# Altium footprint library PcbLib.PcbLib: 285 footprints (part 3 of 18)
Each footprint in its own frame and in the unit in brackets; x right, y up, seen from the top. Pads: shape width x height; smd on the part's side, far side on the other; paste and mask are expansions set on the pad; w line width, h text height; cw(c..) or ccw(c..) is an arc to the next point about the centre after c.
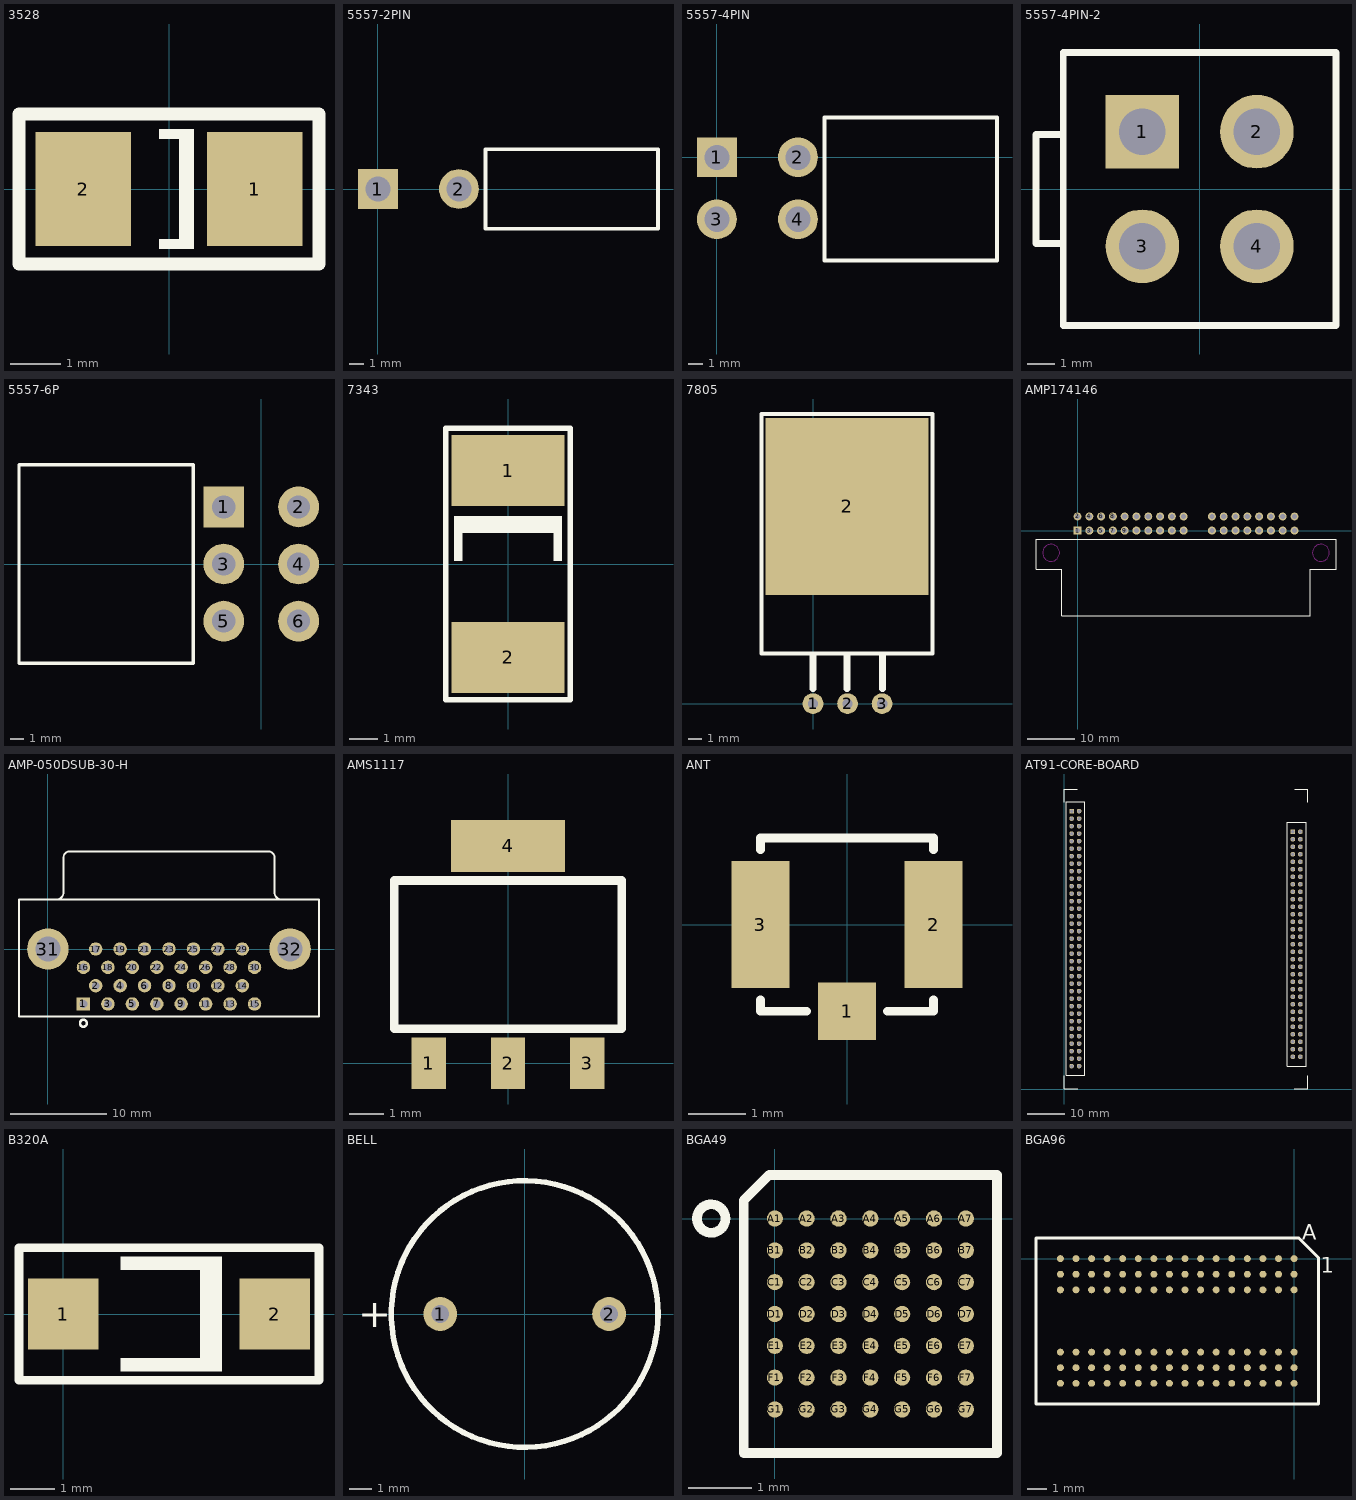
[diagram p2: the footprints below, top view; thin cyan lines are the x and y axes]

## 3528 [mil]
pads (2):
  rect 75x90 smd: 1(67.5,0) 2(-67.5,0)
Top Overlay:
  rectangle: -7.87,-47.24 7.87,-39.37
  rectangle: -7.87,39.37 11.81,47.24
  rectangle: 7.87,-47.24 19.68,47.24
  lines w10: -118.11,-59.06 0,-59.06 118.11,-59.06 118.11,59.06 0,59.06 -118.11,59.06 -118.11,-59.06

## 5557-2PIN [mm]
pads (2):
  rect 2.7x2.7 hole 1.7: 1(0,0)
  round 2.7 hole 1.7: 2(5.5,0)
Top Overlay:
  lines w0.254: 7.3,-2.7 19,-2.7 19,2.7 11.1,2.7 7.3,2.7 7.3,-2.7

## 5557-4PIN [mm]
pads (4):
  rect 2.7x2.7 hole 1.7: 1(0,0)
  round 2.7 hole 1.7: 2(5.5,0) 3(0,-4.2) 4(5.5,-4.2)
Top Overlay:
  lines w0.254: 7.3,-7 19,-7 19,2.7 11.1,2.7 7.3,2.7 7.3,-7

## 5557-4PIN-2 [mm]
pads (4):
  rect 2.7x2.7 hole 1.7: 1(-2.1,2.1)
  round 2.7 hole 1.7: 2(2.1,2.1) 3(-2.1,-2.1) 4(2.1,-2.1)
Top Overlay:
  lines w0.254: -5,-2 -6,-2 -6,2 -5,2 ; -5,-5 -5,5 5,5 5,-5 -5,-5

## 5557-6P [mm]
pads (6):
  rect 3x3 hole 1.7: 1(-2.75,4.2)
  round 3 hole 1.7: 2(2.75,4.2) 3(-2.75,0) 4(2.75,0) 5(-2.75,-4.2) 6(2.75,-4.2)
Top Overlay:
  lines w0.254: -17.8,-7.3 -17.8,7.3 -5,7.3 -5,-7.3 -17.8,-7.3

## 7343 [mm]
pads (2):
  rect 4x2.5 smd: 1(0,3.3) 2(0,-3.3)
Top Overlay:
  rectangle: -1.9,1.1 1.9,1.7
  rectangle: -1.9,0.1 -1.6,1.7
  rectangle: 1.6,0.1 1.9,1.7
  lines w0.2: -2.2,-4.8 2.2,-4.8 2.2,4.8 -2.2,4.8 -2.2,-4.8

## 7805 [mil]
pads (4):
  round 60 hole 30: 1(0,0) 2(100,0) 3(200,0)
  rect 472.44x511.81 smd: 2(98.43,570.87)
Top Overlay:
  lines w11.81: -149.61,145.67 346.46,145.67 346.46,838.58 -149.61,838.58 -149.61,145.67
  lines w19.68: 0,43.31 0,141.73 ; 98.43,43.31 98.43,141.73 ; 200.79,43.31 200.79,141.73

## AMP174146 [mm]
pads (36):
  rect 1.7x1.7 hole 1.1: 1(0,0)
  round 1.7 hole 1.1: 2(0,3) 3(2.5,0) 4(2.5,3) 5(5,0) 6(5,3) 7(7.5,0) 8(7.5,3) 9(10,0) 10(10,3) 11(12.5,0) 12(12.5,3) 13(15,0) 14(15,3) 15(17.5,0) 16(17.5,3) 17(20,0) 18(20,3) 19(22.5,0) 20(22.5,3) 21(28.5,0) 22(28.5,3) 23(31,0) 24(31,3) 25(33.5,0) 26(33.5,3) 27(36,0) 28(36,3) 29(38.5,0) 30(38.5,3) 31(41,0) 32(41,3) 33(43.5,0) 34(43.5,3) 35(46,0) 36(46,3)
Top Overlay:
  lines w0.254: -8.8,-8.2 -8.8,-1.8 -3.3,-1.8 54.8,-1.8 54.8,-8.2 49.3,-8.2 49.3,-18 -3.3,-18 -3.3,-8.2 -8.8,-8.2
Keep-Out Layer:
  circle w0.254: c51.6,-4.7 r1.8
  circle w0.254: c-5.6,-4.7 r1.8

## AMP-050DSUB-30-H [mm]
pads (32):
  rect 1.4x1.4 hole 0.8: 1(3.7,-5.715)
  round 1.4 hole 0.8: 2(4.97,-3.81) 3(6.24,-5.715) 4(7.51,-3.81) 5(8.78,-5.715) 6(10.05,-3.81) 7(11.32,-5.715) 8(12.59,-3.81) 9(13.86,-5.715) 10(15.13,-3.81) 11(16.4,-5.715) 12(17.67,-3.81) 13(18.94,-5.715) 14(20.21,-3.81) 15(21.48,-5.715) 16(3.7,-1.905) 17(4.97,0) 18(6.24,-1.905) 19(7.51,0) 20(8.78,-1.905) 21(10.05,0) 22(11.32,-1.905) 23(12.59,0) 24(13.86,-1.905) 25(15.13,0) 26(16.4,-1.905) 27(17.67,0) 28(18.94,-1.905) 29(20.21,0) 30(21.48,-1.905)
  round 4.3 hole 2.6: 31(0,0) 32(25.18,0)
Top Overlay:
  circle w0.254: c3.7,-7.715 r0.361
  lines w0.2: 0.92,5.155 ccw(c0.92,5.85) 1.615,5.85 ; 1.615,5.87 1.615,9.46 cw(c2.31,9.46) 2.31,10.155 22.87,10.155 cw(c22.87,9.46) 23.565,9.46 ; 23.565,9.65 23.565,5.85 ccw(c24.26,5.85) 24.26,5.155 ; -3,-7.015 -3,5.155 28.18,5.155 28.18,-7.015 -3,-7.015

## AMS1117 [mm]
pads (4):
  rect 1x1.5 smd: 1(-2.3,0) 2(0,0) 3(2.3,0)
  rect 3.3x1.5 smd: 4(0,6.3)
Top Overlay:
  lines w0.254: -3.3,1 -3.3,5.3 3.3,5.3 3.3,1 0,1 -3.3,1

## ANT [mm]
pads (3):
  rect 1x1 smd: 1(0,-1.5)
  rect 1x2.2 smd: 2(1.5,0) 3(-1.5,0)
Top Overlay:
  lines w0.15: -1.5,-1.3 -1.5,-1.5 -0.7,-1.5 ; -1.5,1.3 -1.5,1.5 1.5,1.5 1.5,1.3 ; 0.7,-1.5 1.5,-1.5 1.5,-1.3

## AT91-CORE-BOARD [mm]
pads (132):
  rect 1.25x1.25 hole 0.889: A1(61,68.6) B1(2,74.1)
  round 1.25 hole 0.889: A2(63,68.6) A3(61,66.6) A4(63,66.6) A5(61,64.6) A6(63,64.6) A7(61,62.6) A8(63,62.6) A9(61,60.6) A10(63,60.6) A11(61,58.6) A12(63,58.6) A13(61,56.6) A14(63,56.6) A15(61,54.6) A16(63,54.6) A17(61,52.6) A18(63,52.6) A19(61,50.6) A20(63,50.6) A21(61,48.6) A22(63,48.6) A23(61,46.6) A24(63,46.6) A25(61,44.6) A26(63,44.6) A27(61,42.6) A28(63,42.6) A29(61,40.6) A30(63,40.6) A31(61,38.6) A32(63,38.6) A33(61,36.6) A34(63,36.6) A35(61,34.6) A36(63,34.6) A37(61,32.6) A38(63,32.6) A39(61,30.6) A40(63,30.6) A41(61,28.6) A42(63,28.6) A43(61,26.6) A44(63,26.6) A45(61,24.6) A46(63,24.6) A47(61,22.6) A48(63,22.6) A49(61,20.6) A50(63,20.6) A51(61,18.6) A52(63,18.6) A53(61,16.6) A54(63,16.6) A55(61,14.6) A56(63,14.6) A57(61,12.6) A58(63,12.6) A59(61,10.6) A60(63,10.6) A61(61,8.6) A62(63,8.6) B2(4,74.1) B3(2,72.1) B4(4,72.1) B5(2,70.1) B6(4,70.1) B7(2,68.1) B8(4,68.1) B9(2,66.1) B10(4,66.1) B11(2,64.1) B12(4,64.1) B13(2,62.1) B14(4,62.1) B15(2,60.1) B16(4,60.1) B17(2,58.1) B18(4,58.1) B19(2,56.1) B20(4,56.1) B21(2,54.1) B22(4,54.1) B23(2,52.1) B24(4,52.1) B25(2,50.1) B26(4,50.1) B27(2,48.1) B28(4,48.1) B29(2,46.1) B30(4,46.1) B31(2,44.1) B32(4,44.1) B33(2,42.1) B34(4,42.1) B35(2,40.1) B36(4,40.1) B37(2,38.1) B38(4,38.1) B39(2,36.1) B40(4,36.1) B41(2,34.1) B42(4,34.1) B43(2,32.1) B44(4,32.1) B45(2,30.1) B46(4,30.1) B47(2,28.1) B48(4,28.1) B49(2,26.1) B50(4,26.1) B51(2,24.1) B52(4,24.1) B53(2,22.1) B54(4,22.1) B55(2,20.1) B56(4,20.1) B57(2,18.1) B58(4,18.1) B59(2,16.1) B60(4,16.1) B61(2,14.1) B62(4,14.1) B63(2,12.1) B64(4,12.1) B65(2,10.1) B66(4,10.1) B67(2,8.1) B68(4,8.1) B69(2,6.1) B70(4,6.1)
Top Overlay:
  lines w0.254: 61.5,80 65,80 65,76.5 ; 0,3.5 0,3.5 ; 0,3.5 0,0 3.5,0 ; 0,76.5 0,76.5 ; 0,76.5 0,80 3.5,80 ; 3.5,0 3.5,0 ; 3.5,80 3.5,80 ; 61.5,0 61.5,0 ; 61.5,0 65,0 65,3.5 ; 65,3.5 65,3.5 ; 65,76.5 65,76.5 ; 0.5,3.6 5.5,3.6 5.5,11.6 5.5,53.7 5.5,61.7 5.5,76.6 0.5,76.6 0.5,61.6 0.5,53.6 0.5,11.6 0.5,3.6 ; 59.5,6.1 64.5,6.1 64.5,48.2 64.5,56.2 64.5,71.1 59.5,71.1 59.5,48.1 59.5,6.1

## B320A [mm]
pads (2):
  rect 1.6x1.6 smd: 1(0,0) 2(4.8,0)
Top Overlay:
  rectangle: 3.1,-1.3 3.6,1.3
  rectangle: 1.3,1 3.3,1.3
  rectangle: 1.3,-1.3 3.3,-1
  lines w0.2: -1,-1.5 5.8,-1.5 5.8,1.5 -1,1.5 -1,-1.5

## BELL [mm]
pads (2):
  round 1.524 hole 0.8: 1(-3.8,0) 2(3.8,0)
Top Overlay:
  circle w0.254: c0,0 r6
  text "+" at -7.5,-0.6 h1.3

## BGA49 [mil] "BGA49_0P5_3P62X4"
pads (49):
  round 10 smd: A1(0,0) A2(19.69,0) A3(39.37,0) A4(59.06,0) A5(78.75,0) A6(98.43,0) A7(118.12,0) B1(0,-19.69) B2(19.69,-19.69) B3(39.37,-19.69) B4(59.06,-19.69) B5(78.75,-19.69) B6(98.43,-19.69) B7(118.12,-19.69) C1(0,-39.37) C2(19.69,-39.37) C3(39.37,-39.37) C4(59.06,-39.37) C5(78.75,-39.37) C6(98.43,-39.37) C7(118.12,-39.37) D1(0,-59.06) D2(19.69,-59.06) D3(39.37,-59.06) D4(59.06,-59.06) D5(78.75,-59.06) D6(98.43,-59.06) D7(118.12,-59.06) E1(0,-78.75) E2(19.69,-78.75) E3(39.37,-78.75) E4(59.06,-78.75) E5(78.75,-78.75) E6(98.43,-78.75) E7(118.12,-78.75) F1(0,-98.43) F2(19.69,-98.43) F3(39.37,-98.43) F4(59.06,-98.43) F5(78.75,-98.43) F6(98.43,-98.43) F7(118.12,-98.43) G1(0,-118.12) G2(19.69,-118.12) G3(39.37,-118.12) G4(59.06,-118.12) G5(78.75,-118.12) G6(98.43,-118.12) G7(118.12,-118.12)
Top Overlay:
  circle w5.98: c-39.37,0 r8.8
  lines w6: -19.28,-145.08 137.4,-145.08 137.4,26.96 -3.53,26.96 -19.28,11.21 -19.28,-145.08

## BGA96 [mil]
pads (96):
  round 14 smd: A1(0,0) A2(0,-31.49) A3(0,-62.99) A7(0,-188.97) A8(0,-220.47) A9(0,-251.96) B1(-31.5,0) B2(-31.5,-31.49) B3(-31.5,-62.99) B7(-31.5,-188.97) B8(-31.5,-220.47) B9(-31.5,-251.96) C1(-62.99,0) C2(-62.99,-31.49) C3(-62.99,-62.99) C7(-62.99,-188.97) C8(-62.99,-220.47) C9(-62.99,-251.96) D1(-94.49,0) D2(-94.49,-31.49) D3(-94.49,-62.99) D7(-94.49,-188.97) D8(-94.49,-220.47) D9(-94.49,-251.96) E1(-125.98,0) E2(-125.98,-31.49) E3(-125.98,-62.99) E7(-125.98,-188.97) E8(-125.98,-220.47) E9(-125.98,-251.96) F1(-157.48,0) F2(-157.48,-31.49) F3(-157.48,-62.99) F7(-157.48,-188.97) F8(-157.48,-220.47) F9(-157.48,-251.96) G1(-188.98,0) G2(-188.98,-31.49) G3(-188.98,-62.99) G7(-188.98,-188.97) G8(-188.98,-220.47) G9(-188.98,-251.96) H1(-220.47,0) H2(-220.47,-31.49) H3(-220.47,-62.99) H7(-220.47,-188.97) H8(-220.47,-220.47) H9(-220.47,-251.96) J1(-251.97,0) J2(-251.97,-31.49) J3(-251.97,-62.99) J7(-251.97,-188.97) J8(-251.97,-220.47) J9(-251.97,-251.96) K1(-283.46,0) K2(-283.46,-31.49) K3(-283.46,-62.99) K7(-283.46,-188.97) K8(-283.46,-220.47) K9(-283.46,-251.96) L1(-314.96,0) L2(-314.96,-31.49) L3(-314.96,-62.99) L7(-314.96,-188.97) L8(-314.96,-220.47) L9(-314.96,-251.96) M1(-346.46,0) M2(-346.46,-31.49) M3(-346.46,-62.99) M7(-346.46,-188.97) M8(-346.46,-220.47) M9(-346.46,-251.96) N1(-377.95,0) N2(-377.95,-31.49) N3(-377.95,-62.99) N7(-377.95,-188.97) N8(-377.95,-220.47) N9(-377.95,-251.96) P1(-409.45,0) P2(-409.45,-31.49) P3(-409.45,-62.99) P7(-409.45,-188.97) P8(-409.45,-220.47) P9(-409.45,-251.96) R1(-440.94,0) R2(-440.94,-31.49) R3(-440.94,-62.99) R7(-440.94,-188.97) R8(-440.94,-220.47) R9(-440.94,-251.96) T1(-472.44,0) T2(-472.44,-31.49) T3(-472.44,-62.99) T7(-472.44,-188.97) T8(-472.44,-220.47) T9(-472.44,-251.96)
Top Overlay:
  lines w6: -521.76,-293.41 49.32,-293.41 49.32,2.09 9.96,41.45 -521.77,41.45 -521.76,-293.41
  text "1" at 53.76,-28.22 h31
  text "A" at 16.89,38.65 h31